# Altium footprint library PCB - LEADLESS - QFN - ANALOG LQFN-28 5x4MM.PCBLIB: 1 footprints
Each footprint in its own frame and in the unit in brackets; x right, y up, seen from the top. Pads: shape width x height; smd on the part's side, far side on the other; paste and mask are expansions set on the pad; w line width, h text height; cw(c..) or ccw(c..) is an arc to the next point about the centre after c.
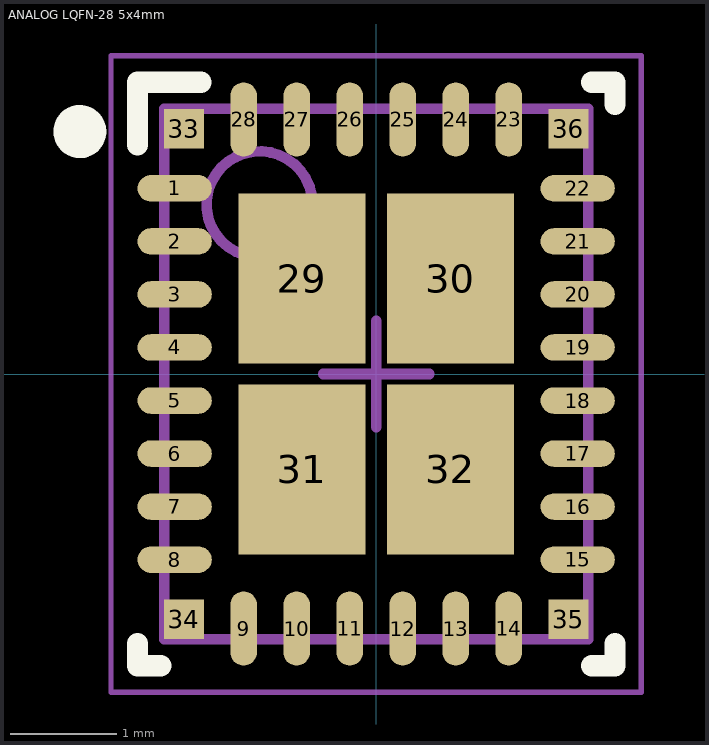
[diagram p0: the footprint, top view; thin cyan lines are the x and y axes]

## ANALOG LQFN-28 5x4mm [mm] "QFN, 28-Leads, Body 4.00x5.00mm, Pitch 0.50mm, Thermal Pad 1.20x1.60mm, IPC Medium Density"
height 0.83
pads (36):
  oval 0.7x0.25 smd: 1(-1.9,1.75) 2(-1.9,1.25) 3(-1.9,0.75) 4(-1.9,0.25) 5(-1.9,-0.25) 6(-1.9,-0.75) 7(-1.9,-1.25) 8(-1.9,-1.75) 15(1.9,-1.75) 16(1.9,-1.25) 17(1.9,-0.75) 18(1.9,-0.25) 19(1.9,0.25) 20(1.9,0.75) 21(1.9,1.25) 22(1.9,1.75)
  oval 0.25x0.7 smd: 9(-1.25,-2.4) 10(-0.75,-2.4) 11(-0.25,-2.4) 12(0.25,-2.4) 13(0.75,-2.4) 14(1.25,-2.4) 23(1.25,2.4) 24(0.75,2.4) 25(0.25,2.4) 26(-0.25,2.4) 27(-0.75,2.4) 28(-1.25,2.4)
  rect 1.2x1.6 smd: 29(-0.7,0.9) 30(0.7,0.9) 31(-0.7,-0.9) 32(0.7,-0.9)
  rect 0.375x0.375 smd paste-5: 33(-1.813,2.312) 34(-1.813,-2.312) 35(1.813,-2.312) 36(1.813,2.312)
Top Overlay:
  circle w0.25: c-2.794,2.286 r0.125
  region: -2.032,2.794
  lines w0.2: -2.25,-2.54 -2.25,-2.75 -2.032,-2.75 ; -2.25,2.159 -2.25,2.75 -1.651,2.75 ; 2.032,-2.75 2.25,-2.75 2.25,-2.54 ; 2.032,2.75 2.25,2.75 2.25,2.54
Mechanical 13:
  circle w0.1: c-1.1,1.6 r0.5
  lines w0.1: -2,-2.5 -2,2.5 2,2.5 2,-2.5 -2,-2.5
Mechanical 15:
  lines w0.05: -2.5,-3 -2.5,3 2.5,3 2.5,-3 -2.5,-3
  lines w0.1: -0.5,0 0.5,0 ; 0,-0.5 0,0.5
3D body "ANALOG LQFN-28 5x4x0.74mm.step": height 0.83, standoff 0, extent -2,-2.5 2,2.5